# Altium schematic symbol library MIC803-29D3VC3-TR.SchLib: 1 symbol
Pins are listed as number, name and electrical type; pins without a type are passive.

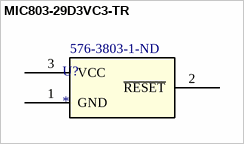
[diagram p0: symbol MIC803-29D3VC3-TR]

## MIC803-29D3VC3-TR
designator U?  Supplier Part Number 1: 576-3803-1-ND
IC MPU SUPERVISOR SC70-3; Manufacturer 1: Microchip; Manufacturer Part Number 1: MIC803-29D3VC3-TR; Number of Voltages Monitored: 1; Reset: Active Low; Reset Timeout: 140ms; Threshold Voltage: 2.93V; Supplier 1: Digi-Key; Stock 1: 16214; Pricing 1: 1=0.30000, 25=0.24720, 100=0.22660 (USD); RoHS: Yes; Mount: Surface Mount; Number of Pins: 3; Min Operating Temperature: -40°C; Max Operating Temperature: 125°C; Packaging: Tape and Reel; Type: Simple Reset/Power-On Reset; Lead Free: Lead Free; ComponentLink1URL: http://www.microchip.com/mymicrochip/filehandler.aspx?ddocname=en580643&src-supplier=Digi-Key; ComponentLink1Description: http://www.microchip.com/mymicrochip/filehandler.aspx?ddocname=en580643&src-supplier=Digi-Key
footprint SC-70-3
pins: 1 GND, 2 ~{RESET}, 3 VCC